# Altium schematic symbol library lib_switches.SchLib: 1 symbol
Pins are listed as number, name and electrical type; pins without a type are passive.

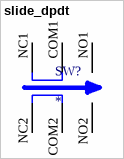
[diagram p0: symbol slide_dpdt]

## slide_dpdt
designator SW?
DPDT
footprint JS202011SCQN (JS202011SCQN DPDT Switch)
pins: COM1, COM2, NC1, NC2, NO1, NO2